# Altium schematic symbol library TBP02R2W-381-06BE.SchLib: 1 symbol
Pins are listed as number, name and electrical type; pins without a type are passive.

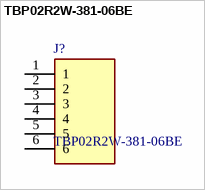
[diagram p0: symbol TBP02R2W-381-06BE]

## TBP02R2W-381-06BE
designator J?
TBP02R2W-381 Series - 2~24 Poles, Pluggable, Receptacle, Vertical, 3.81 Pitch, Terminal Block Connector; Manufacturer_Name: Same Sky; Geometry.Height: 9.6mm; Mouser Part Number: 490-TBP02R2W-38106BE; Mouser Price/Stock: https://www.mouser.co.uk/ProductDetail/CUI-Devices/TBP02R2W-381-06BE?qs=PzGy0jfpSMtr%2Ft0bFoapMQ%3D%3D; Manufacturer_Part_Number: TBP02R2W-381-06BE; Datasheet Link: https://www.sameskydevices.com/product/resource/tbp02r2w-381.pdf
footprint TBP02R2W38106BE
pins: 1, 2, 3, 4, 5, 6